# Altium footprint library R-adj.PcbLib: 1 footprints
Each footprint in its own frame and in the unit in brackets; x right, y up, seen from the top. Pads: shape width x height; smd on the part's side, far side on the other; paste and mask are expansions set on the pad; w line width, h text height; cw(c..) or ccw(c..) is an arc to the next point about the centre after c.
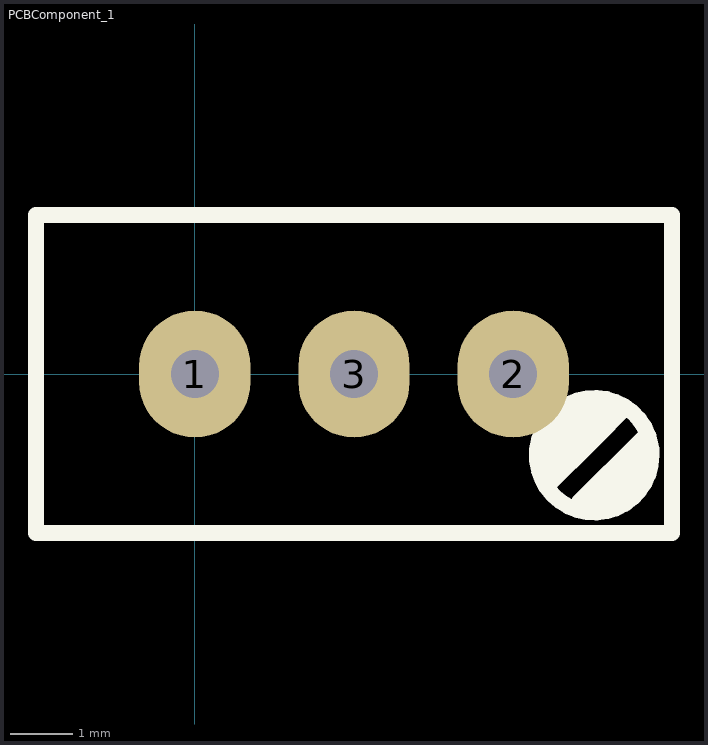
[diagram p0: the footprint, top view; thin cyan lines are the x and y axes]

## PCBComponent_1 [mil]
pads (3):
  oval 70x80 hole 30: 1(0,0) 2(200,0) 3(100,0)
Top Overlay:
  circle w10: c251,-51 r36.06
  lines w10: 257.76,-74.24 264.24,-74.24 271,-81 ; 271,-21 251,-41 221,-71 221,-61 261,-21 241,-21 ; 272.88,-79.12 271,-81 ; 281,-41 241,-81 251,-81 ; 231,-31 221,-41 221,-51 241,-31 ; 231,-31 241,-21 ; 231,-31 241,-31 ; 241,-31 241,-21 ; 241,-31 251,-31 241,-21 ; 251,-81 271,-81 ; 251,-81 266.82,-65.18 272.88,-65.18 287.06,-51 287.06,-47.06 272.88,-61.23 270.77,-61.23 271,-61.47 271,-81 ; -100,-100 100,-100 300,-100 300,100 -100,100 -100,-100